# Altium schematic symbol library 4DB-P108-05.SchLib: 1 symbol
Pins are listed as number, name and electrical type; pins without a type are passive.

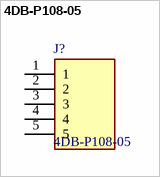
[diagram p0: symbol 4DB-P108-05]

## 4DB-P108-05
designator J?
5 Position Barrier Strip, Dual Barrier, Printed Circuit Pin Bottom Termination, Wire-to-Board, 8.26 mm [.325 in] Centerline, Buchanan 4DB Series; Manufacturer_Name: TE Connectivity; Geometry.Height: 13.462mm; Mouser Part Number: 571-214376678; Mouser Price/Stock: https://www.mouser.co.uk/ProductDetail/TE-Connectivity/4DB-P108-05?qs=Z6EyuLNezPm0fdvMDgwfQw%3D%3D; Manufacturer_Part_Number: 4DB-P108-05; Datasheet Link: https://www.te.com/en/product-2-1437667-8.html
footprint 4DBP10805
pins: 1, 2, 3, 4, 5